# Altium footprint library czc.PcbLib: 157 footprints (part 8 of 10)
Each footprint in its own frame and in the unit in brackets; x right, y up, seen from the top. Pads: shape width x height; smd on the part's side, far side on the other; paste and mask are expansions set on the pad; w line width, h text height; cw(c..) or ccw(c..) is an arc to the next point about the centre after c.
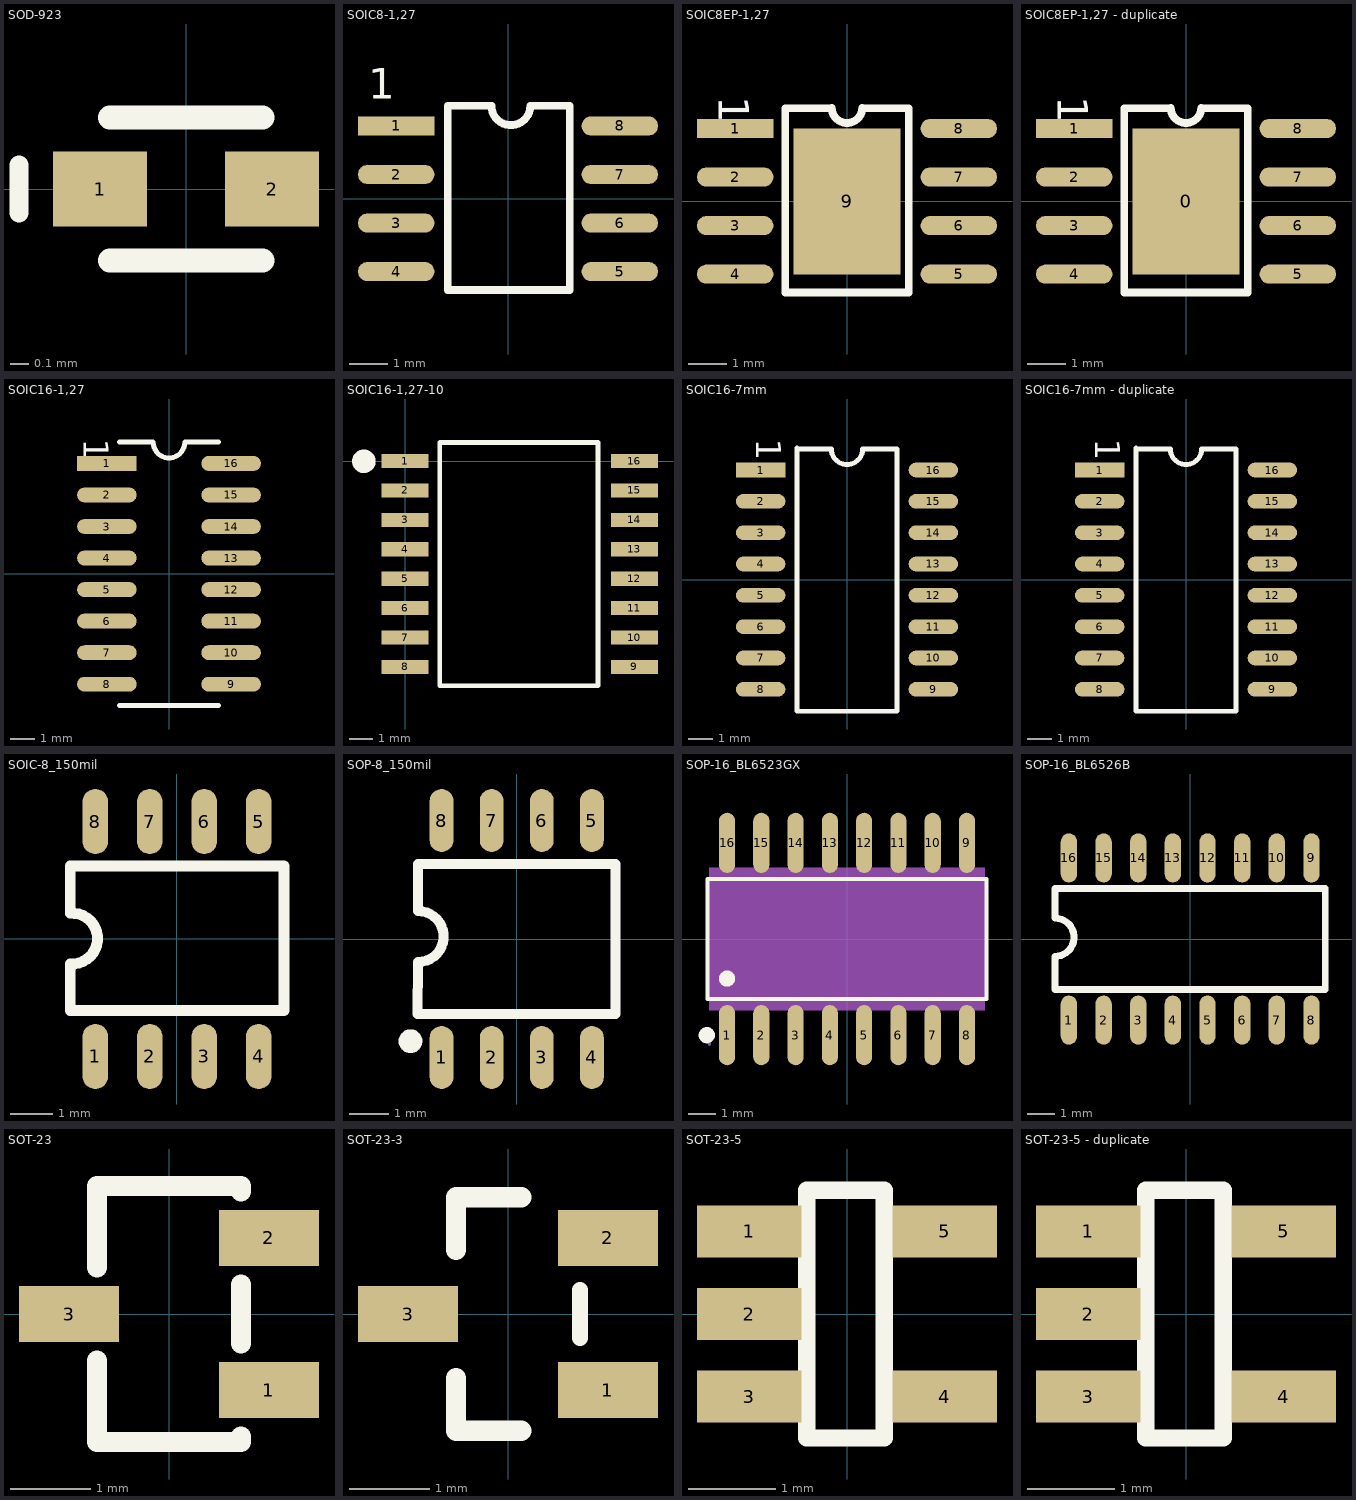
[diagram p7: the footprints below, top view; thin cyan lines are the x and y axes]

## SOD-923 [mil]
pads (2):
  rect 19.68x15.74 smd: 1(-18,0) 2(18,0)
Top Overlay:
  lines w3.94: -35,-5 -35,5
  lines w5: -16,-15 16,-15 ; -16,15 16,15

## SOIC8-1,27 [mm]
pads (8):
  rect 2x0.5 smd: 1(-2.925,1.905)
  oval 2x0.5 smd: 2(-2.925,0.635) 3(-2.925,-0.635) 4(-2.925,-1.905) 5(2.925,-1.905) 6(2.925,-0.635) 7(2.925,0.635) 8(2.925,1.905)
Top Overlay:
  lines w0.203: -0.454,2.434 -1.579,2.434 -1.579,-2.384 1.614,-2.384 1.614,2.434 0.583,2.434 cw(c0.075,2.434) -0.433,2.434
  text "1" at -3.658,2.616 h0.8

## SOIC8EP-1,27 [mm]
pads (9):
  rect 2x0.5 smd: 1(-2.925,1.905)
  oval 2x0.5 smd: 2(-2.925,0.635) 3(-2.925,-0.635) 4(-2.925,-1.905) 5(2.925,-1.905) 6(2.925,-0.635) 7(2.925,0.635) 8(2.925,1.905)
  rect 2.8x3.82 smd: 9(0,0)
Top Overlay:
  lines w0.203: -1.614,-2.384 -1.614,2.434 ; -1.579,-2.384 1.614,-2.384 1.614,2.434 0.4,2.434 ; -1.579,2.434 -0.4,2.434 ; -0.4,2.45 ccw(c0,2.45) 0.4,2.45
  text "1" at -3.36,2.75 h0.8

## SOIC8EP-1,27 - duplicate [mm]
pads (9):
  rect 2.8x3.82 smd: 0(0,0)
  rect 2x0.5 smd: 1(-2.925,1.905)
  oval 2x0.5 smd: 2(-2.925,0.635) 3(-2.925,-0.635) 4(-2.925,-1.905) 5(2.925,-1.905) 6(2.925,-0.635) 7(2.925,0.635) 8(2.925,1.905)
Top Overlay:
  lines w0.203: -1.614,-2.384 -1.614,2.434 ; -1.579,-2.384 1.614,-2.384 1.614,2.434 0.4,2.434 ; -1.579,2.434 -0.4,2.434 ; -0.4,2.45 ccw(c0,2.45) 0.4,2.45
  text "1" at -3.36,2.75 h0.8

## SOIC16-1,27 [mm]
pads (16):
  rect 2.4x0.6 smd: 1(-2.5,4.445)
  oval 2.4x0.6 smd: 2(-2.5,3.175) 3(-2.5,1.905) 4(-2.5,0.635) 5(-2.5,-0.635) 6(-2.5,-1.905) 7(-2.5,-3.175) 8(-2.5,-4.445) 9(2.5,-4.445) 10(2.5,-3.175) 11(2.5,-1.905) 12(2.5,-0.635) 13(2.5,0.635) 14(2.5,1.905) 15(2.5,3.175) 16(2.5,4.445)
Top Overlay:
  lines w0.2: -2,-5.3 2,-5.3 ; -2,5.3 -0.635,5.3 ccw(c0,5.3) 0.635,5.3 2,5.3
  text "1" at -3.44,5.436 h1

## SOIC16-1,27-10 [mil]
pads (16):
  rect 80x24 smd: 1(0,0) 2(0,-50) 3(0,-100) 4(0,-150) 5(0,-200) 6(0,-250) 7(0,-300) 8(0,-350) 9(390,-350) 10(390,-300) 11(390,-250) 12(390,-200) 13(390,-150) 14(390,-100) 15(390,-50) 16(390,0)
Top Overlay:
  circle w20: c-70,-0.49 r10
  lines w8: 59,31.5 59,-381.89 328,-381.89 328,31.5 59.05,31.5

## SOIC16-7mm [mm]
pads (16):
  rect 2x0.6 smd: 1(-3.5,4.445)
  oval 2x0.6 smd: 2(-3.5,3.175) 3(-3.5,1.905) 4(-3.5,0.635) 5(-3.5,-0.635) 6(-3.5,-1.905) 7(-3.5,-3.175) 8(-3.5,-4.445) 9(3.5,-4.445) 10(3.5,-3.175) 11(3.5,-1.905) 12(3.5,-0.635) 13(3.5,0.635) 14(3.5,1.905) 15(3.5,3.175) 16(3.5,4.445)
Top Overlay:
  lines w0.2: -2.032,5.3 -0.635,5.3 ccw(c0,5.3) 0.635,5.3 2.032,5.3 ; -2.032,5.334 -2.032,-5.334 2.032,-5.334 2.032,5.207
  text "1" at -3.683,5.715 h1

## SOIC16-7mm - duplicate [mm]
pads (16):
  rect 2x0.6 smd: 1(-3.5,4.445)
  oval 2x0.6 smd: 2(-3.5,3.175) 3(-3.5,1.905) 4(-3.5,0.635) 5(-3.5,-0.635) 6(-3.5,-1.905) 7(-3.5,-3.175) 8(-3.5,-4.445) 9(3.5,-4.445) 10(3.5,-3.175) 11(3.5,-1.905) 12(3.5,-0.635) 13(3.5,0.635) 14(3.5,1.905) 15(3.5,3.175) 16(3.5,4.445)
Top Overlay:
  lines w0.2: -2.032,5.3 -0.635,5.3 ccw(c0,5.3) 0.635,5.3 2.032,5.3 ; -2.032,5.334 -2.032,-5.334 2.032,-5.334 2.032,5.207
  text "1" at -3.683,5.715 h1

## SOIC-8_150mil [mm]
pads (8):
  oval 0.6x1.518 smd: 1(-1.905,-2.74) 2(-0.635,-2.74) 3(0.635,-2.74) 4(1.905,-2.74) 5(1.905,2.74) 6(0.635,2.74) 7(-0.635,2.74) 8(-1.905,2.74)
Top Overlay:
  lines w0.254: -2.49,-1.671 2.5,-1.671 2.5,1.7 -2.49,1.7 -2.49,0.6 cw(c-2.445,0.01) -2.49,-0.58 -2.49,-1.671

## SOP-8_150mil [mm]
pads (8):
  oval 0.6x1.598 smd: 1(-1.905,-3) 2(-0.635,-3) 3(0.635,-3) 4(1.905,-3) 5(1.905,3) 6(0.635,3) 7(-0.635,3) 8(-1.905,3)
Top Overlay:
  lines w0.254: -2.515,-1.905 -2.5,-0.584 ccw(c-2.5,0.064) -2.5,0.711 ; -2.5,-1.9 2.5,-1.9 2.5,1.9 -2.5,1.9 -2.5,0.711
  lines w0.3: -2.692,-2.438 ccw(c-2.691,-2.588) -2.69,-2.438

## SOP-16_BL6523GX [mm]
pads (16):
  oval 0.602x2.231 smd: 1(-4.445,-3.565) 2(-3.175,-3.565) 3(-1.905,-3.565) 4(-0.635,-3.565) 5(0.635,-3.565) 6(1.905,-3.565) 7(3.175,-3.565) 8(4.445,-3.565) 9(4.445,3.565) 10(3.175,3.565) 11(1.905,3.565) 12(0.635,3.565) 13(-0.635,3.565) 14(-1.905,3.565) 15(-3.175,3.565) 16(-4.445,3.565)
Top Overlay:
  circle w0.3: c-5.198,-3.565 r0.15
  circle w0.3: c-4.445,-1.469 r0.15
  lines w0.152: -5.176,-2.221 5.176,-2.221 5.176,2.221 -5.176,2.221 -5.176,-2.221
Mechanical 4:
  region: -5.1,-2.65 -5.1,2.65 5.1,2.65 5.1,-2.65
Mechanical 5:
  pour cut-out: 4.23,3.11 4.23,2.64 4.66,2.64 4.66,3.11
  region: 4.23,3.9 4.23,3.1 4.66,3.1 4.66,3.9
  pour cut-out: 2.96,3.11 2.96,2.64 3.39,2.64 3.39,3.11
  region: 2.96,3.9 2.96,3.1 3.39,3.1 3.39,3.9
  pour cut-out: 1.69,3.11 1.69,2.64 2.12,2.64 2.12,3.11
  region: 1.69,3.9 1.69,3.1 2.12,3.1 2.12,3.9
  pour cut-out: 0.42,3.11 0.42,2.64 0.85,2.64 0.85,3.11
  region: 0.42,3.9 0.42,3.1 0.85,3.1 0.85,3.9
  pour cut-out: -0.85,3.11 -0.85,2.64 -0.42,2.64 -0.42,3.11
  region: -0.85,3.9 -0.85,3.1 -0.42,3.1 -0.42,3.9
  pour cut-out: -2.12,3.11 -2.12,2.64 -1.69,2.64 -1.69,3.11
  region: -2.12,3.9 -2.12,3.1 -1.69,3.1 -1.69,3.9
  pour cut-out: -3.39,3.11 -3.39,2.64 -2.96,2.64 -2.96,3.11
  region: -3.39,3.9 -3.39,3.1 -2.96,3.1 -2.96,3.9
  pour cut-out: -4.66,3.11 -4.66,2.64 -4.23,2.64 -4.23,3.11
  region: -4.66,3.9 -4.66,3.1 -4.23,3.1 -4.23,3.9
  pour cut-out: 4.23,-3.11 4.23,-2.64 4.66,-2.64 4.66,-3.11
  region: 4.23,-3.9 4.23,-3.1 4.66,-3.1 4.66,-3.9
  pour cut-out: 2.96,-3.11 2.96,-2.64 3.39,-2.64 3.39,-3.11
  region: 2.96,-3.9 2.96,-3.1 3.39,-3.1 3.39,-3.9
  pour cut-out: 1.69,-3.11 1.69,-2.64 2.12,-2.64 2.12,-3.11
  region: 1.69,-3.9 1.69,-3.1 2.12,-3.1 2.12,-3.9
  pour cut-out: 0.42,-3.11 0.42,-2.64 0.85,-2.64 0.85,-3.11
  region: 0.42,-3.9 0.42,-3.1 0.85,-3.1 0.85,-3.9
  pour cut-out: -0.85,-3.11 -0.85,-2.64 -0.42,-2.64 -0.42,-3.11
  region: -0.85,-3.9 -0.85,-3.1 -0.42,-3.1 -0.42,-3.9
  pour cut-out: -2.12,-3.11 -2.12,-2.64 -1.69,-2.64 -1.69,-3.11
  region: -2.12,-3.9 -2.12,-3.1 -1.69,-3.1 -1.69,-3.9
  pour cut-out: -3.39,-3.11 -3.39,-2.64 -2.96,-2.64 -2.96,-3.11
  region: -3.39,-3.9 -3.39,-3.1 -2.96,-3.1 -2.96,-3.9
  pour cut-out: -4.66,-3.11 -4.66,-2.64 -4.23,-2.64 -4.23,-3.11
  region: -4.66,-3.9 -4.66,-3.1 -4.23,-3.1 -4.23,-3.9
Mechanical 6:
  circle w0.06: c-5.1,-3.9 r0.03
Mechanical 15:
  circle w0.3: c-4.445,-4.3 r0.15

## SOP-16_BL6526B [mm]
pads (16):
  oval 0.6x1.798 smd: 1(-4.445,-2.972) 2(-3.175,-2.972) 3(-1.905,-2.972) 4(-0.635,-2.972) 5(0.635,-2.972) 6(1.905,-2.972) 7(3.175,-2.972) 8(4.445,-2.972) 9(4.445,2.972) 10(3.175,2.972) 11(1.905,2.972) 12(0.635,2.972) 13(-0.635,2.972) 14(-1.905,2.972) 15(-3.175,2.972) 16(-4.445,2.972)
Top Overlay:
  lines w0.254: -4.953,0.762 cw(c-4.953,0.064) -4.953,-0.635 -4.953,-1.85 -4.95,-1.85 4.95,-1.85 4.95,1.85 -4.95,1.85 -4.95,0.762

## SOT-23 [mm]
pads (3):
  rect 1.25x0.7 smd: 1(1.25,-0.95) 2(1.25,0.95) 3(-1.25,0)
Top Overlay:
  lines w0.254: -0.9,-0.581 -0.9,-1.6 0.9,-1.6 0.9,-1.531 ; -0.9,0.581 -0.9,1.6 0.9,1.6 0.9,1.531 ; 0.9,-0.369 0.9,0.369
3D body "SOT-23-3.STEP": height 1.2, standoff 0, extent -1.4,-1.45 1.4,1.45

## SOT-23-3 [mm]
pads (3):
  rect 1.25x0.7 smd: 1(1.25,-0.95) 2(1.25,0.95) 3(-1.25,0)
Top Overlay:
  lines w0.2: 0.9,-0.3 0.9,0.3
  lines w0.254: -0.65,-0.8 -0.65,-1.46 0.165,-1.46 ; 0.165,1.46 -0.65,1.46 ; -0.65,0.8 -0.65,1.46 ; -0.65,0.8 -0.65,1.46 ; -0.65,0.8 -0.65,1.46

## SOT-23-5 [mm]
pads (5):
  rect 1.2x0.6 smd: 1(-1.125,0.95) 2(-1.125,0) 3(-1.125,-0.95) 4(1.125,-0.95) 5(1.125,0.95)
Top Overlay:
  lines w0.2: -0.461,-1.426 -0.461,1.424 0.427,1.424 0.427,-1.426 -0.461,-1.426

## SOT-23-5 - duplicate [mm]
pads (5):
  rect 1.2x0.6 smd: 1(-1.125,0.95) 2(-1.125,0) 3(-1.125,-0.95) 4(1.125,-0.95) 5(1.125,0.95)
Top Overlay:
  lines w0.2: -0.461,-1.426 -0.461,1.424 0.427,1.424 0.427,-1.426 -0.461,-1.426